# EAGLE library part RAZORIMU (library SFDC BASELINE LIBRARY)
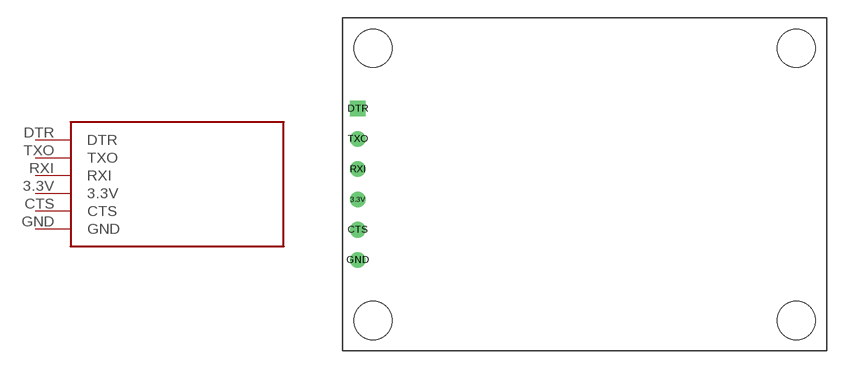
[diagram p4: symbol with the pads of RAZORIMU; footprint RAZORIMU]

Designator prefix -

## RAZORIMU  [RAZORIMU]
3.3V  3.3V
CTS  CTS
DTR  DTR
GND  GND
RXI  RXI
TXO  TXO

## Footprint RAZORIMU (pad centres in mm)
drill 0.8: 3.3V 1.27,12.7; CTS 1.27,10.16; GND 1.27,7.62; RXI 1.27,15.24; TXO 1.27,17.78
drill 0.8 square: DTR 1.27,20.32
hole 3.2 at 2.54,2.54
hole 3.2 at 2.54,25.4
hole 3.2 at 38.1,25.4
hole 3.2 at 38.1,2.54